# Altium schematic symbol library R0805.Schlib: 1 symbol
Pins are listed as number, name and electrical type; pins without a type are passive.

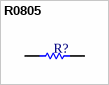
[diagram p0: symbol R0805]

## R0805
designator R?  (value not drawn)
0805 Chip Resistor - Standard
pins: 1, 2